# Altium footprint library SPM6530T-2R2M.PcbLib: 1 footprints
Each footprint in its own frame and in the unit in brackets; x right, y up, seen from the top. Pads: shape width x height; smd on the part's side, far side on the other; paste and mask are expansions set on the pad; w line width, h text height; cw(c..) or ccw(c..) is an arc to the next point about the centre after c.
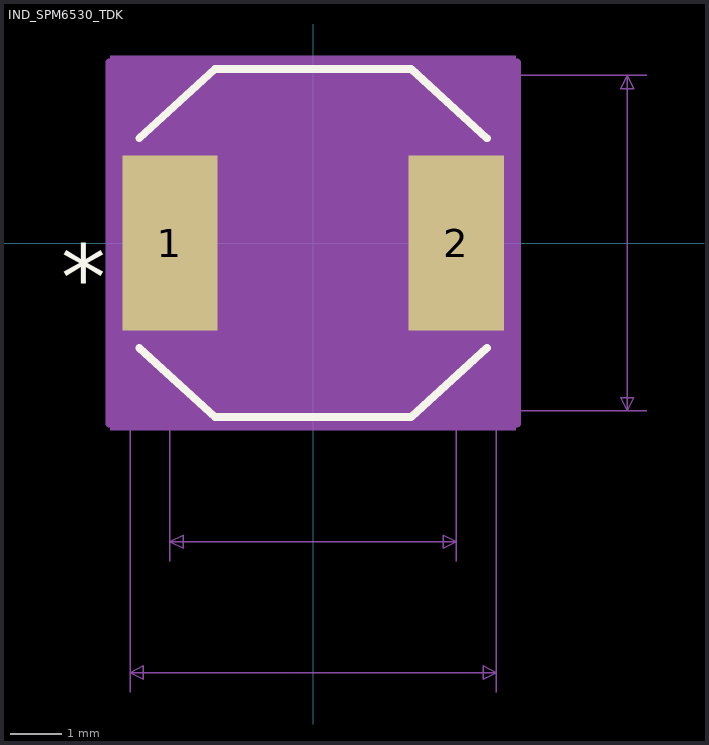
[diagram p0: the footprint, top view; thin cyan lines are the x and y axes]

## IND_SPM6530_TDK [mm]
pads (2):
  rect 1.85x3.4 smd paste+0 mask+0: 1(-2.775,0) 2(2.775,0)
Top Overlay:
  lines w0.152: -3.37,-2.033 -1.902,-3.377 1.902,-3.377 3.37,-2.033 ; -3.37,2.033 -1.902,3.377 1.902,3.377 3.37,2.033
  text "*" at -4.884,-1.27 h1.27
Mechanical 5:
  region: -3.931,3.631 3.931,3.631 3.931,-3.631 -3.931,-3.631
Mechanical 7:
  lines w0.025: -3.55,-8.711 -3.55,-3.25 ; -2.775,-6.171 -2.775,0 ; 2.775,-6.171 2.775,0 ; 3.55,-8.711 3.55,-3.25 6.471,-3.25 ; 3.55,3.25 6.471,3.25 ; -3.55,-8.33 3.55,-8.33 ; -3.55,-8.33 -3.296,-8.203 -3.296,-8.457 -3.55,-8.33 ; -2.775,-5.79 2.775,-5.79 ; -2.775,-5.79 -2.521,-5.663 -2.521,-5.917 -2.775,-5.79 ; 2.775,-5.79 2.521,-5.663 2.521,-5.917 2.775,-5.79 ; 3.55,-8.33 3.296,-8.203 3.296,-8.457 3.55,-8.33 ; 6.09,-3.25 6.09,3.25 ; 6.09,-3.25 5.963,-2.996 6.217,-2.996 6.09,-3.25 ; 6.09,3.25 5.963,2.996 6.217,2.996 6.09,3.25
  text "Default Padstyle: RX72p83Y133p86D0T" at -11.112,-12.14 h1.27
  text "Alt 1 Padstyle: OX60Y90D30P" at -8.572,-14.045 h1.27
  text "Alt 2 Padstyle: OX90Y60D30P" at -8.572,-15.95 h1.27
  text "0.219in/5.55mm" at -2.222,-6.933 h0.64
  text "0.256in/6.5mm" at 6.598,2.933 h0.64
  text "0.28in/7.1mm" at -1.905,-9.473 h0.64
Mechanical 13:
  lines w0.025: -3.55,-1.625 -3.55,1.625 -1.775,3.25 1.775,3.25 3.55,1.625 3.55,-1.625 1.775,-3.25 -1.775,-3.25 -3.55,-1.625
  text "*" at -3.36,-1.27 h1.27
Mechanical 15:
  region: 3.954,-3.504 -3.954,-3.504 -3.954,3.504 3.954,3.504
  lines w0.152: -3.954,-3.504 -3.954,3.504 3.954,3.504 3.954,-3.504 -3.954,-3.504
3D body: height 0.25, standoff 0, extent 0,0 0.254,0.254